# Altium schematic symbol library STEM_SCH.SchLib: 42 symbols
Pins are listed as number, name and electrical type; pins without a type are passive.

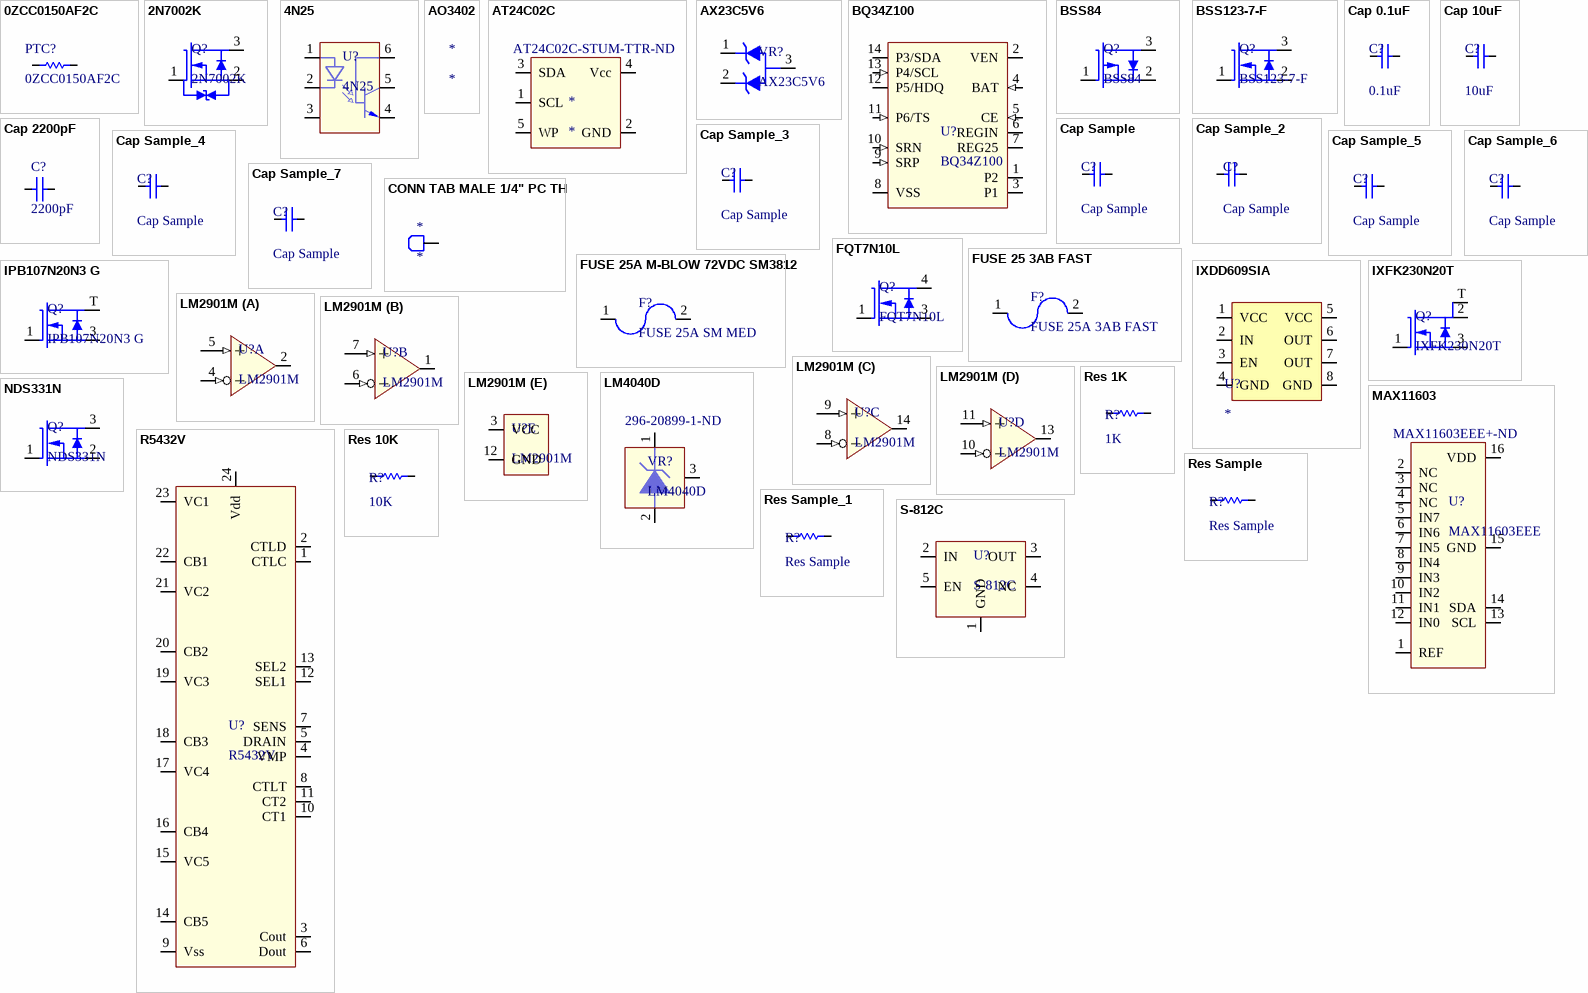
[diagram p0: symbols 0ZCC0150AF2C to S-812C]

## 0ZCC0150AF2C
designator PTC?
PTC RESTTBLE 1.50A 12V CHIP 1812; Manufacturer 1: Bel Fuse Inc; Category 1: Circuit Protection; Current - Hold (Ih) (Max): 1.5A; Current - Trip (It): 3A; Current - Max: 100A; R Min/Max: 0.040 ~ 0.075 Ohm; Time to Trip: 0.5s; Supplier 1: Digi-Key; Supplier Part Number 1: 507-1504-1-ND; Manufacturer Part Number 1: 0ZCC0150AF2C; RoHS 1: RoHS Compliant; Description 1: PTC RESTTBLE 1.50A 12V CHIP 1812; Stock 1: 4563; Pricing 1: 1=0.22, 10=0.201, 25=0.1852, 100=0.1664, 250=0.14816, 500=0.12348, 1000=0.11701 (USD); Voltage - Max: 12V; Package / Case: 1812 (4532 Metric), Concave; Packaging: Cut Tape (CT); ComponentLink1URL: http://belfuse.com/pdfs/0ZCC.pdf; ComponentLink1Description: http://belfuse.com/pdfs/0ZCC.pdf
pins: 1, 2

## 2N7002K
designator Q?
XSTR, MOSFET, N-CH, 60V, 0.3mA, SOT-23; Supplier 1: Digi-Key; Supplier Part Number 1: 2N7002K-7-DICT-ND
footprint 2N7002K (SOT23-3) (SOT-23-3 for 2N7002K)
pins: 1 G, 2 S, 3 D

## 4N25
designator U?
OPTOISOLATOR W/BASE SMD; Supplier 1: Digi-Key; Supplier Part Number 1: 160-1301-5-ND
footprint 4N25SM (SOIC254P1020X460-6N) (SOIC, 6-Leads, Body 7.8x7.0mm (max), Pitch 2.54mm, IPC Medium Density)
pins: 1 A, 2 K, 3 NC, 4 E, 5 C, 6 B

## AO3402
designator *
MOSFET N-CH 30V 4.0A SOT23; Manufacturer: Alpha & Omega Semiconductor Inc; Manufacturer Part Number: AO3402; FET Type: MOSFET N-Channel, Metal Oxide; FET Feature: Logic Level Gate; Current - Continuous Drain (Id) @ 25° C: 4A; Rds On (Max) @ Id, Vgs: 55 mOhm @ 4A, 10V; Vgs(th) (Max) @ Id: 1.4V @ 250μA; Gate Charge (Qg) @ Vgs: 4.34nC @ 4.5V; Input Capacitance (Ciss) @ Vds: 390pF @ 15V; Power - Max: 1.4W; Supplier 1: Digi-Key; RoHS: RoHS Compliant; Category: Discrete Semiconductor Products; Stock 1: 9458; Pricing 1: 1=0.63, 25=0.366, 100=0.295, 250=0.2124, 500=0.1711, 1000=0.13275 (USD); Drain to Source Voltage (Vdss): 30V; Mounting Type: Surface Mount; Package / Case: TO-236-3, SC-59, SOT-23-3; Supplier Device Package: SOT-23-3; Packaging: Cut Tape (CT); ComponentLink1URL: http://www.aosmd.com/res/data_sheets/AO3402.pdf; ComponentLink1Description: http://www.aosmd.com/res/data_sheets/AO3402.pdf; Supplier Part Number 1: 785-1002-1-ND
footprint 2N7002K (SOT23-3) (SOT-23-3 for 2N7002K)

## AT24C02C
designator *  Supplier Part Number 1: AT24C02C-STUM-TTR-ND
Supplier 1: Digi-Key
footprint AT24C0xC-STUM-T (SOT23-5)
pins: 1 SCL, 2 GND, 3 SDA, 4 Vcc, 5 WP

## AX23C5V6
designator VR?
DIODE ZENER DUAL 5.6V SOT23
footprint AZ23C5V6 SOT23-3 (SOT-23-3 for AZ23C5V6)
pins: 1 G, 2 S, 3 D

## BQ34Z100
designator U?
IC BATT MGMT LIION/LPO4 14TSSOP; Supplier 1: Digi-Key; Supplier Part Number 1: 296-30497-5-ND
footprint BQ34Z100 (TSSOP-14) (TSOP, 14-Leads, Body 5.1x4.5mm (max), Pitch 0.65mm, IPC Medium Density)
pins: 1 P2, 2 VEN, 3 P1, 4 BAT (in), 5 CE (in), 6 REGIN, 7 REG25, 8 VSS, 9 SRP (in), 10 SRN (in), 11 P6/TS (in), 12 P5/HDQ, 13 P4/SCL (in), 14 P3/SDA

## BSS84
designator Q?
XSTR, MOSFET, P-CH, 50V, 520mA, SOT-23; Supplier 2: Digi-Key; Supplier Part Number 1: 70100186; Supplier 3: Digi-Key
footprint BSS84 (SOT23-3) (SOT-23-3 for BSS84)
pins: 1 G, 2 S, 3 D

## BSS123-7-F
designator Q?
XSTR, MOSFET, N-CH, 100V, 0.17A, SOT-23
footprint BSS123-7-F (SOT23-3) (SOT-23-3 for BSS123-7-F)
pins: 1 G, 2 S, 3 D

## Cap 0.1uF
designator C?, comment 0.1uF
CAP CER 0.1UF 25V 10% X5R 0603; Manufacturer: TDK Corporation; Manufacturer Part Number: C1608X5R1E104K; Capacitance: 0.1μF; Supplier 1: Digi-Key; Supplier Part Number 1: 445-6854-2-ND; Operating Temperature: -55°C ~ 85°C; Package / Case: 0603 (1608 Metric); Temperature Coefficient: X5R; Applications: General Purpose; Supplier Part Number: 445-6854-2-ND; Thickness (Max): 0.035" (0.90mm); Height - Seated (Max): -; Ratings: -; Supplier: Digi-Key; Mounting Type: Surface Mount, MLCC; Lead Spacing: -; Tolerance: ±10%; Packaging: Tape & Reel (TR); Category: Capacitors; Size / Dimension: 0.063" L x 0.031" W (1.60mm x 0.80mm); Features: -; Voltage - Rated: 25V; Lead Style: -; RoHS: RoHS Compliant
footprint 1608[0603] (Chip Capacitor, Body 1.6x0.8mm, IPC High Density)
simulation model CAP (Capacitor)
signal-integrity model Cap
pins: 1, 2

## Cap 10uF
designator C?, comment 10uF
Capacitor
footprint 1608[0603] (Chip Capacitor, Body 1.6x0.8mm, IPC High Density)
simulation model CAP (Capacitor)
signal-integrity model Cap
pins: 1, 2

## Cap 2200pF
designator C?, comment 2200pF
CAP CER 2200PF 16V 10% X7R 0201; Manufacturer: TDK Corporation; Manufacturer Part Number: C0603X7R1C222K030BA; Supplier: Digi-Key; Size / Dimension: 0.024" L x 0.012" W (0.60mm x 0.30mm); Temperature Coefficient: X7R; Applications: General Purpose; Supplier Part Number: 445-7298-6-ND; Voltage - Rated: 16V; Thickness (Max): 0.013" (0.33mm); Category: Capacitors; Operating Temperature: -55°C ~ 125°C; Capacitance: 2200pF; Tolerance: ±10%; Packaging: Digi-Reel?; RoHS: RoHS Compliant; Package / Case: 0201 (0603 Metric); Mounting Type: Surface Mount, MLCC; Height - Seated (Max): -; Ratings: -; Features: -; Lead Style: -; Lead Spacing: -; Supplier 1: Digi-Key; Supplier Part Number 1: 445-7298-6-ND
footprint RAD-0.3 (Radial Cap, Thru-Hole; 2 Leads; 0.3 in Pin Spacing)
simulation model CAP (Capacitor)
signal-integrity model Cap
pins: 1, 2

## Cap Sample
designator C?
Capacitor
footprint 1608[0603] (Chip Capacitor, Body 1.6x0.8mm, IPC High Density)
simulation model CAP (Capacitor)
signal-integrity model Cap
pins: 1, 2

## Cap Sample_2
designator C?, comment Cap Sample
Capacitor
footprint 1608[0603] (Chip Capacitor, Body 1.6x0.8mm, IPC High Density)
simulation model CAP (Capacitor)
signal-integrity model Cap
pins: 1, 2

## Cap Sample_3
designator C?, comment Cap Sample
Capacitor
footprint 1608[0603] (Chip Capacitor, Body 1.6x0.8mm, IPC High Density)
simulation model CAP (Capacitor)
signal-integrity model Cap
pins: 1, 2

## Cap Sample_4
designator C?, comment Cap Sample
Capacitor
footprint 1608[0603] (Chip Capacitor, Body 1.6x0.8mm, IPC High Density)
simulation model CAP (Capacitor)
signal-integrity model Cap
pins: 1, 2

## Cap Sample_5
designator C?, comment Cap Sample
Capacitor
footprint 1608[0603] (Chip Capacitor, Body 1.6x0.8mm, IPC High Density)
simulation model CAP (Capacitor)
signal-integrity model Cap
pins: 1, 2

## Cap Sample_6
designator C?, comment Cap Sample
Capacitor
footprint 1608[0603] (Chip Capacitor, Body 1.6x0.8mm, IPC High Density)
simulation model CAP (Capacitor)
signal-integrity model Cap
pins: 1, 2

## Cap Sample_7
designator C?, comment Cap Sample
Capacitor
footprint 1608[0603] (Chip Capacitor, Body 1.6x0.8mm, IPC High Density)
simulation model CAP (Capacitor)
signal-integrity model Cap
pins: 1, 2

## CONN TAB MALE 1/4" PC TH
designator *
footprint CONN MALE TAB 1/4" PC TH (Keystone 1287-ST)
pins: 1 A, 1 A

## FQT7N10L
designator Q?
XSTR, MOSFET, N-CH, 100V, 1.7A, SOT-223; Supplier 1: Digi-Key; Supplier Part Number 1: FQT7N10LTFCT-ND
footprint FT7N10L (SOT230P700X180-4N) (SOT223, 4-Leads, Body 6.7x7.3mm (max), Pitch 2.30mm, IPC Medium Density)
pins: 1 G, 3 S, 4 D

## FUSE 25 3AB FAST
designator F?, comment FUSE 25A 3AB FAST
FUSE 500V 3AB AXIAL FAST 25A; Supplier 1: Digi-Key; Supplier Part Number 1: F3266-ND
footprint FUSE 3AB W/PIGTAIL (3AB CARTRIDGE FUSE >20A W/PIGTAIL)
pins: 1 A, 2 B

## FUSE 25A M-BLOW 72VDC SM3812
designator F?, comment FUSE 25A SM MED
FUSE 25A M-BLOW 72VDC SM3812
footprint FUSE SM3812
pins: 1 A, 2 B

## IPB107N20N3 G
designator Q?
XSTR, MOSFET, N-CH, 200V, 88A, SM TO-263-3
footprint IPB107N20N3 G (PG-TO263-3)
pins: 1 G, 3 S, T D

## IXDD609SIA
designator U?
IC GATE DVR 9A NON-INV 8-SOIC; Manufacturer Part Number: IXDD609SIA; Manufacturer: IXYS Integrated Circuits Division; Input Type: Non-Inverting; Configuration: Low-Side; Number of Outputs: 1; Delay Time: 40ns; Voltage - Supply: 4.5 V ~ 35 V; Supplier 1: Digi-Key; Supplier Part Number 1: CLA358-ND; Category: Integrated Circuits (ICs); Supplier: Digi-Key; RoHS: RoHS Compliant; Operating Temperature: -40°C ~ 125°C; Packaging: Tube; Supplier Device Package: 8-SOIC N; Supplier Part Number: CLA358-ND; Current - Peak: 9A; Mounting Type: Surface Mount; Number of Configurations: 1; High Side Voltage - Max (Bootstrap): -; Package / Case: 8-SOIC (0.154", 3.90mm Width)
footprint SOIC127P600-8N (SOIC, 8-Leads, Body 4.9x3.9mm, Pitch 1.27mm, IPC Medium Density)
pins: 1 VCC, 2 IN, 3 EN, 4 GND, 5 VCC, 6 OUT, 7 OUT, 8 GND

## IXFK230N20T
designator Q?
XSTR, MOSFET, N-CH, 200V, 230A, TO-264; Supplier 1: Mouser; Supplier Part Number 1: 747-IXFK230N20T
footprint IXFK230N20T (TO-264) HORIZ (IXFK230N20T TO-264 MOSFET LAID FLAT)
pins: 1 G, 2 D, 3 D, T D

## LM2901M
designator U?
IC COMPARATOR QUAD 14-SOP; Supplier 1: Digi-Key; Supplier Part Number 1: LM2901MXFSCT-ND
footprint LM2901M (SOP127P600-14N) (LM2901M SOP-14)
part A pins: 2 OUT1, 4 IN1- (in), 5 IN1+ (in)
part B pins: 1 OUT2, 6 IN2- (in), 7 IN2+ (in)
part C pins: 8 IN3- (in), 9 IN3+ (in), 14 OUT3
part D pins: 10 IN4- (in), 11 IN4+ (in), 13 OUT4
part E pins: 3 VCC, 12 GND

## LM4040D
designator VR?  Supplier Part Number 1: 296-20899-1-ND
IC VREF SHUNT PREC 2.048V SOT23; Supplier 1: Digi-Key
footprint BSS84 (SOT23-3) (SOT-23-3 for BSS84)
pins: 1 K, 2 A, 3 NC

## MAX11603
designator U?, comment MAX11603EEE  Supplier Part Number 1: MAX11603EEE+-ND
IC ADC SERIAL 8BIT 8CH 16-QSOP; Supplier 1: Digi-Key
footprint MAX11603EEE (QSOP0635P600-16N)
pins: 1 REF, 2 NC, 3 NC, 4 NC, 5 IN7, 6 IN6, 7 IN5, 8 IN4, 9 IN3, 10 IN2, 11 IN1, 12 IN0, 13 SCL, 14 SDA, 15 GND, 16 VDD

## NDS331N
designator Q?
XSTR, MOSFET, N-CH, 20V, 1.3A, SOT-23; Manufacturer: Alpha & Omega Semiconductor Inc; Manufacturer Part Number: AO3402; Power - Max: 1.4W; Input Capacitance (Ciss) @ Vds: 390pF @ 15V; FET Type: MOSFET N-Channel, Metal Oxide; Rds On (Max) @ Id, Vgs: 55 mOhm @ 4A, 10V; FET Feature: Logic Level Gate; Drain to Source Voltage (Vdss): 30V; Current - Continuous Drain (Id) @ 25° C: 4A; Vgs(th) (Max) @ Id: 1.4V @ 250μA; Gate Charge (Qg) @ Vgs: 4.34nC @ 4.5V; Supplier 1: Digi-Key; Supplier Part Number 1: NDS331NCT-ND; RoHS: RoHS Compliant; Category: Discrete Semiconductor Products; Supplier Device Package: SOT-23-3; Packaging: Cut Tape (CT); Package / Case: TO-236-3, SC-59, SOT-23-3; Supplier: Digi-Key; Supplier Part Number: 785-1002-1-ND; Mounting Type: Surface Mount; Supplier 2: Digi-Key; Supplier Part Number 2: 785-1002-1-ND
footprint NDS331N (SOT23-3) (SOT-23 for NDS331N)
pins: 1 G, 2 S, 3 D

## R5432V
designator U?
IC, BATTERY PROT, LI+, SSOP-24
footprint TSSOP-24 (TSSOP065P600-24N
pins: 1 CTLC, 2 CTLD, 3 Cout, 4 VMP, 5 DRAIN, 6 Dout, 7 SENS, 8 CTLT, 9 Vss, 10 CT1, 11 CT2, 12 SEL1, 13 SEL2, 14 CB5, 15 VC5, 16 CB4, 17 VC4, 18 CB3, 19 VC3, 20 CB2, 21 VC2, 22 CB1, 23 VC1, 24 Vdd

## Res 1K
designator R?, comment 1K
RES 1.0K OHM 1/10W 5% 0603 SMD; Manufacturer Part Number: ERJ-3GEYJ102V; Manufacturer: Panasonic Electronic Components; Power (Watts): 0.1W, 1/10W; Temperature Coefficient: ±200ppm/°C; Supplier 1: Digi-Key; Supplier Part Number 1: P1.0KGCT-ND; Number of Terminations: 2; Resistance (Ohms): 1k; Composition: Thick Film; Supplier: Digi-Key; Features: -; Supplier Device Package: 0603; Size / Dimension: 0.063" L x 0.031" W (1.60mm x 0.80mm); Category: Resistors; Supplier Part Number: P1.0KGCT-ND; Height: 0.022" (0.55mm); Packaging: Cut Tape (CT); Tolerance: ±5%; RoHS: RoHS Compliant; Package / Case: 0603 (1608 Metric)
footprint 1608[0603] (Chip Capacitor, Body 1.6x0.8mm, IPC High Density)
simulation model RESISTOR (Resistor)
signal-integrity model Res
pins: 1, 2

## Res 10K
designator R?, comment 10K
RES 10K OHM 1/10W 5% 0603 SMD; Manufacturer: Panasonic Electronic Components; Manufacturer Part Number: ERJ-3GEYJ103V; Power (Watts): 0.1W, 1/10W; Temperature Coefficient: ±200ppm/°C; Supplier 1: Digi-Key; Supplier Part Number 1: P10KGCT-ND; Supplier Device Package: 0603; Tolerance: ±5%; Number of Terminations: 2; Supplier: Digi-Key; RoHS: RoHS Compliant; Height: 0.022" (0.55mm); Packaging: Cut Tape (CT); Supplier Part Number: P10KGCT-ND; Size / Dimension: 0.063" L x 0.031" W (1.60mm x 0.80mm); Category: Resistors; Package / Case: 0603 (1608 Metric); Composition: Thick Film; Features: -; Resistance (Ohms): 10k
footprint 1608[0603] (Chip Capacitor, Body 1.6x0.8mm, IPC High Density)
simulation model RESISTOR (Resistor)
signal-integrity model Res
pins: 1, 2

## Res Sample
designator R?
Resistor
footprint 1608[0603] (Chip Capacitor, Body 1.6x0.8mm, IPC High Density)
simulation model RESISTOR (Resistor)
signal-integrity model Res
pins: 1, 2

## Res Sample_1
designator R?, comment Res Sample
Resistor
footprint 1608[0603] (Chip Capacitor, Body 1.6x0.8mm, IPC High Density)
simulation model RESISTOR (Resistor)
signal-integrity model Res
pins: 1, 2

## S-812C
designator U?
IC, REG, LINEAR, W/EN, 3.3V, SOT-23-5
footprint S-812C (SOT23-5)
pins: 1 GND, 2 IN, 3 OUT, 4 NC, 5 EN

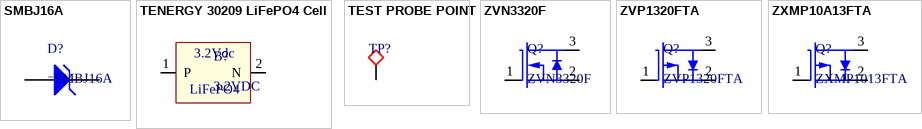
[diagram p1: symbols SMBJ16A to ZXMP10A13FTA]

## SMBJ16A
designator D?
DIODE TVS 16V 600W UNIDIR 5% SMB; Manufacturer Part Number: SMBJ16A; Manufacturer: Littelfuse Inc; Polarization: Unidirectional; Voltage - Breakdown: 17.8V; Supplier Part Number: SMBJ16ALFCT-ND; Power (Watts): 600W; Voltage - Reverse Standoff (Typ): 16V; RoHS: RoHS Compliant; Category: Circuit Protection; Supplier Device Package: SMB; Mounting Type: Surface Mount; Packaging: Cut Tape (CT); Supplier: Digi-Key; Package / Case: DO-214AA, SMB
footprint smb (DO-214-AA/SMB; 2 C-Bend Leads; Body 5.3 x 3.6 mm, inc. leads (LxW))
pins: 1 A, 2 K

## TENERGY 30209 LiFePO4 Cell
designator B?, comment 3.2VDC
CELL LIFEPO4 20AH, 3.2VNOM PLANAR; Manufacturer: Tenergy Inc.; Manufacturer Part Number: 30209; Voltage - Max: 4.2V
footprint TENERGY 30209 LiFePO4 Cell
pins: 1 P, 2 N
text: 3.2Vdc; LiFePO4

## TEST PROBE POINT
designator TP?  (value not drawn)
footprint TEST POINT 60/37 .025 VIA
pins: 1

## ZVN3320F
designator Q?
XSTR MOSFET N-CH 200V 60MA SOT23-3
footprint BSS123-7-F (SOT23-3) (SOT-23-3 for BSS123-7-F)
pins: 1 G, 2 S, 3 D

## ZVP1320FTA
designator Q?
XSTR, MOSFET, P-CH, 200V, 35mA, SOT-23
footprint ZVP1320F (SOT23-3) (SOT-23-3 for ZVP1320P)
pins: 1 G, 2 S, 3 D

## ZXMP10A13FTA
designator Q?, comment ZXMP1013FTA
MOSFET P-CH 100V 600MA SOT23-3; Supplier 1: Digi-Key; Supplier Part Number 1: ZXMP10A13FCT-ND
footprint BSS84 (SOT23-3) (SOT-23-3 for BSS84)
pins: 1 G, 2 S, 3 D